# Altium integrated library 18650_2s.IntLib: 1 symbol
Pins are listed as number, name and electrical type; pins without a type are passive.

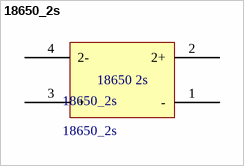
[diagram p0: symbol 18650_2s]

## 18650_2s
designator 18650_2s
footprint 18650_2s
pins: 1 -, 2 2+, 3 +, 4 2-
text: 18650 2s